# EAGLE library part A4955 (library Bits_library_eagle)
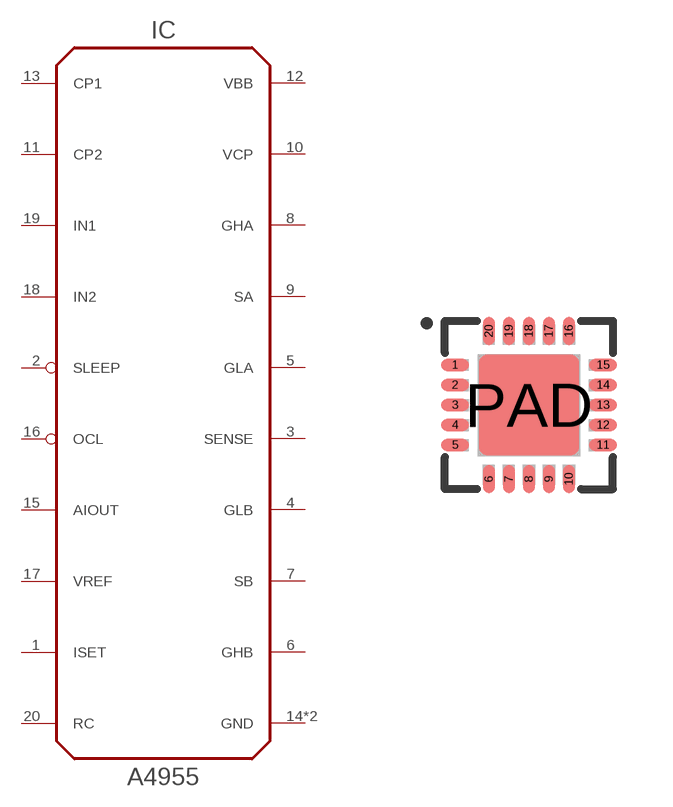
[diagram p1: symbol with the pads of QFN-20; footprint QFN-20]

Designator prefix IC

## A4955QFN20  [QFN-20]
1  ISET  pas
2  SLEEP
3  SENSE  pas
4  GLB  pas
5  GLA  pas
6  GHB  pas
7  SB  pas
8  GHA  pas
9  SA  pas
10  VCP  pas
11  CP2  pas
12  VBB  pwr
13  CP1  pas
14  GND  pwr
15  AIOUT  pas
16  OCL
17  VREF  pas
18  IN2
19  IN1
20  RC  pas
PAD  GND  pwr

## Footprint QFN-20 (pad centres in mm)
smd 0.7 x 0.3: 1 -1.85,1; 2 -1.85,0.5; 3 -1.85,0; 4 -1.85,-0.5; 5 -1.85,-1; 11 1.85,-1; 12 1.85,-0.5; 13 1.85,0; 14 1.85,0.5; 15 1.85,1
smd 0.3 x 0.7: 6 -1,-1.85; 7 -0.5,-1.85; 8 0,-1.85; 9 0.5,-1.85; 10 1,-1.85; 16 1,1.85; 17 0.5,1.85; 18 0,1.85; 19 -0.5,1.85; 20 -1,1.85
smd 2.5 x 2.5: PAD 0,0